# Altium footprint library TSSOP64P600X175-24N.PcbLib: 1 footprints
Each footprint in its own frame and in the unit in brackets; x right, y up, seen from the top. Pads: shape width x height; smd on the part's side, far side on the other; paste and mask are expansions set on the pad; w line width, h text height; cw(c..) or ccw(c..) is an arc to the next point about the centre after c.
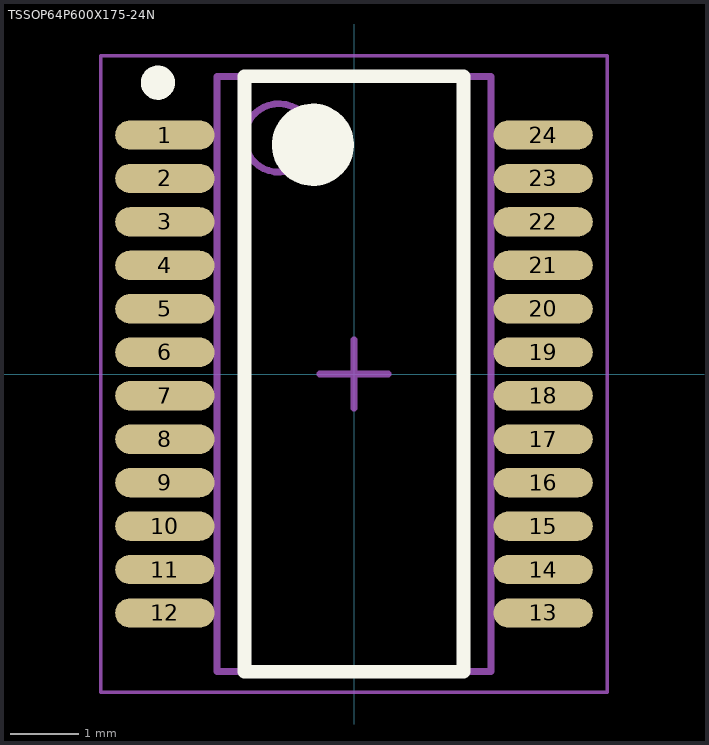
[diagram p0: the footprint, top view; thin cyan lines are the x and y axes]

## TSSOP64P600X175-24N [mm] "SSOP, 24-Leads, Body 8,65x3,90mm, Pitch 0,64mm, IPC Medium Density"
height 1.75
pads (24):
  oval 1.45x0.43 smd: 1(-2.765,3.492) 2(-2.765,2.857) 3(-2.765,2.222) 4(-2.765,1.587) 5(-2.765,0.953) 6(-2.765,0.318) 7(-2.765,-0.318) 8(-2.765,-0.953) 9(-2.765,-1.587) 10(-2.765,-2.222) 11(-2.765,-2.857) 12(-2.765,-3.492) 13(2.765,-3.492) 14(2.765,-2.857) 15(2.765,-2.222) 16(2.765,-1.587) 17(2.765,-0.953) 18(2.765,-0.318) 19(2.765,0.318) 20(2.765,0.953) 21(2.765,1.587) 22(2.765,2.222) 23(2.765,2.857) 24(2.765,3.492)
Top Overlay:
  circle w0.25: c-2.865,4.257 r0.125
  circle w0.6: c-0.6,3.35 r0.3
  lines w0.2: -1.6,-4.35 -1.6,4.35 1.6,4.35 1.6,-4.35 -1.6,-4.35
13:
  circle w0.1: c-1.1,3.45 r0.5
  lines w0.1: -2,-4.35 -2,4.35 2,4.35 2,-4.35 -2,-4.35
Mechanical 15:
  lines w0.05: -3.7,-4.65 -3.7,4.65 3.7,4.65 3.7,-4.65 -3.7,-4.65
  lines w0.1: -0.5,0 0.5,0 ; 0,-0.5 0,0.5
3D body "SSOP64P600X175-24N.step": height 1.75, standoff 0, extent -3.002,-4.35 3.002,4.35